# Altium footprint library Modules.PcbLib: 14 footprints (part 1 of 6)
Each footprint in its own frame and in the unit in brackets; x right, y up, seen from the top. Pads: shape width x height; smd on the part's side, far side on the other; paste and mask are expansions set on the pad; w line width, h text height; cw(c..) or ccw(c..) is an arc to the next point about the centre after c.
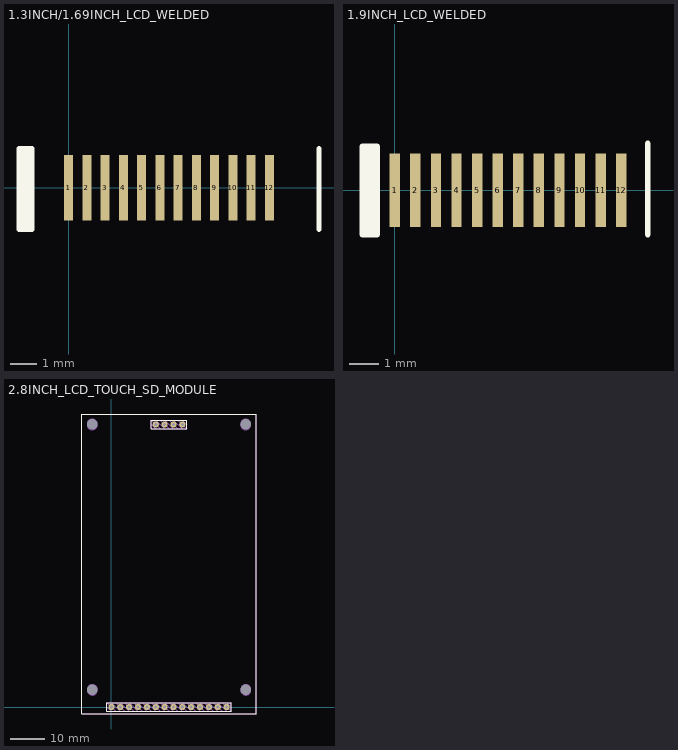
[diagram p0: the footprints below, top view; thin cyan lines are the x and y axes]

## 1.3INCH/1.69INCH_LCD_WELDED [mm]
pads (12):
  rect 0.35x2.5 smd: 1(0,0) 2(0.7,0) 3(1.4,0) 4(2.1,0) 5(2.8,0) 6(3.5,0) 7(4.2,0) 8(4.9,0) 9(5.6,0) 10(6.3,0) 11(7,0) 12(7.7,0)
Top Overlay:
  rectangle: -1.9,-1.6 -1.4,1.5
  lines w0.2: 9.6,-1.6 9.6,1.5 ; -1.9,-1.6 -1.4,-1.6 -1.4,1.5 -1.9,1.5 -1.9,-1.6

## 1.9INCH_LCD_WELDED [mm]
pads (12):
  rect 0.35x2.5 smd: 1(0,0) 2(0.7,0) 3(1.4,0) 4(2.1,0) 5(2.8,0) 6(3.5,0) 7(4.2,0) 8(4.9,0) 9(5.6,0) 10(6.3,0) 11(7,0) 12(7.7,0)
Top Overlay:
  rectangle: -1.1,-1.5 -0.6,1.5
  lines w0.2: 8.6,-1.5 8.6,1.6 ; -1.1,-1.5 -1.1,1.5 -0.6,1.5 -0.6,-1.5 -1.1,-1.5

## 2.8INCH_LCD_TOUCH_SD_MODULE [mm]
pads (22):
  round 1.8 hole 0.9: 1(33.02,0) 2(30.48,0) 3(27.94,0) 4(25.4,0) 5(22.86,0) 6(20.32,0) 7(17.78,0) 8(15.24,0) 9(12.7,0) 10(10.16,0) 11(7.62,0) 12(5.08,0) 13(2.54,0) 14(0,0) 15(20.33,81) 16(17.79,81) 17(15.25,81) 18(12.71,81)
  round 0 hole 3 unplated mask+0.102: ""(-5.49,4.92) ""(-5.49,81) ""(38.51,4.92) ""(38.51,81)
Top Overlay:
  lines w0.2: -8.49,-2 -8.49,84 41.51,84 41.51,-2 -8.49,-2 ; -1.27,-1.27 -1.27,1.27 34.29,1.27 34.29,-1.27 -1.27,-1.27 ; 11.44,79.73 11.44,82.27 21.6,82.27 21.6,79.73 11.44,79.73
Top Draw:
  circle w0.25: c-5.5,81 r1.5
  circle w0.25: c38.5,81 r1.5
  circle w0.25: c38.51,4.92 r1.5
  circle w0.25: c-5.49,4.92 r1.5
  lines w0.25: -1.27,0 0,-1.27 ; 0,1.27 2.54,-1.27 ; 1.27,-1.27 -1.27,1.27 ; 1.27,1.27 3.81,-1.27 ; 2.54,1.27 5.08,-1.27 ; 3.81,1.27 6.35,-1.27 ; 5.08,1.27 7.62,-1.27 ; 6.35,1.27 8.89,-1.27 ; 7.62,1.27 10.16,-1.27 ; 8.89,1.27 11.43,-1.27 ; 10.16,1.27 12.7,-1.27 ; 11.43,1.27 13.97,-1.27 ; 11.44,81 12.71,79.73 ; 12.7,1.27 15.24,-1.27 ; 12.71,82.27 15.25,79.73 ; 13.97,1.27 16.51,-1.27 ; 13.98,79.73 11.44,82.27 ; 13.98,82.27 16.52,79.73 ; 15.24,1.27 17.78,-1.27 ; 15.25,82.27 17.79,79.73 ; 16.51,1.27 19.05,-1.27 ; 16.52,82.27 19.06,79.73 ; 17.78,1.27 20.32,-1.27 ; 17.79,82.27 20.33,79.73 ; 19.05,1.27 21.59,-1.27 ; 19.06,82.27 21.6,79.73 ; 20.32,1.27 22.86,-1.27 ; 20.33,82.27 21.6,81 ; 21.59,1.27 24.13,-1.27 ; 22.86,1.27 25.4,-1.27 ; 24.13,1.27 26.67,-1.27 ; 25.4,1.27 27.94,-1.27 ; 26.67,1.27 29.21,-1.27 ; 27.94,1.27 30.48,-1.27 ; 29.21,1.27 31.75,-1.27 ; 30.48,1.27 33.02,-1.27 ; 31.75,1.27 34.29,-1.27 ; 33.02,1.27 34.29,0 ; -1.27,1.27 34.29,1.27 34.29,-1.27 ; -1.27,1.27 -1.27,-1.27 34.29,-1.27 ; 11.44,82.27 21.6,82.27 21.6,79.73 ; 11.44,82.27 11.44,79.73 21.6,79.73 ; -8.49,-2 -8.49,84 41.51,84 41.51,-2 -8.49,-2
3D body: height 7.5, standoff 0, extent 14.717,80.467 14.742,81.534
3D body: height 7, standoff 0, extent 12.177,81.483 13.243,81.533
3D body: height 7, standoff 0, extent 12.177,80.467 13.243,80.517
3D body: height 7, standoff 0, extent 14.716,80.467 14.767,81.533
3D body: height 7.5, standoff 0, extent 13.218,80.467 13.243,81.533
3D body: height 7.5, standoff 0, extent 14.717,80.467 15.783,80.492
3D body: height 8, standoff 0, extent 13.701,79.73 13.98,82.27
3D body: height 7.5, standoff 0, extent 12.177,80.467 12.202,81.534
3D body: height 8, standoff 0, extent 11.44,79.73 13.98,80.01
3D body: height 7.5, standoff 0, extent 12.177,80.467 13.243,80.492
3D body: height 8, standoff 0, extent 11.44,81.991 13.98,82.27
3D body: height 8, standoff 7.5, extent 11.719,79.992 13.751,80.492
3D body: height 7, standoff 0, extent 13.193,80.467 13.243,81.533
3D body "2.8_TFT_LCD.step": height 16.65, standoff 2.24, extent -8.49,-2 41.51,84
3D body: height 1, standoff 0, extent 12.075,80.365 13.345,81.635
3D body: height 8, standoff 7.5, extent 11.702,79.984 12.202,82.016
3D body: height 7, standoff 0, extent 12.176,80.467 12.227,81.533
3D body: height 0, standoff -3, extent 12.583,80.746 12.837,81.254
3D body: height 8, standoff 7.5, extent 13.218,79.984 13.718,82.016
3D body: height 8, standoff 0, extent 11.44,79.73 11.72,82.27
3D body: height 7.5, standoff 0, extent 12.177,81.508 13.244,81.534
3D body: height 1, standoff 0, extent 32.385,-0.635 33.655,0.635
3D body: height 8, standoff 0, extent 13.98,81.991 16.52,82.27
3D body: height 7, standoff 0, extent 32.487,-0.533 33.553,-0.483
3D body: height 7, standoff 0, extent 19.797,80.467 20.863,80.517
3D body: height 8, standoff 0, extent 29.21,-1.27 31.75,-0.99
3D body: height 7, standoff 0, extent 32.487,0.483 33.553,0.533
3D body: height 1, standoff 0, extent 14.615,80.365 15.885,81.635
3D body: height 8, standoff 7.5, extent 33.528,-1.016 34.028,1.016
3D body: height 8, standoff 7.5, extent 30.988,-1.016 31.488,1.016
3D body: height 7.5, standoff 0, extent 27.407,-0.533 27.432,0.534
3D body: height 8, standoff 0, extent 26.67,-1.27 29.21,-0.99
3D body: height 0, standoff -3, extent 27.813,-0.254 28.067,0.254
3D body: height 8, standoff 7.5, extent 14.259,79.992 16.291,80.492
3D body: height 7, standoff 0, extent 24.866,-0.533 24.917,0.533
3D body: height 8, standoff 0, extent 31.75,-1.27 32.03,1.27
3D body: height 7, standoff 0, extent 24.867,-0.533 25.933,-0.483
3D body: height 8, standoff 7.5, extent 20.838,79.984 21.338,82.016
3D body: height 8, standoff 0, extent 18.781,79.73 19.06,82.27
3D body: height 8, standoff 0, extent 16.52,79.73 16.8,82.27
3D body: height 8, standoff 7.5, extent 14.234,81.508 16.266,82.009
3D body: height 8, standoff 0, extent 16.241,79.73 16.52,82.27
3D body: height 7, standoff 0, extent 27.407,-0.533 28.473,-0.483
3D body: height 7, standoff 0, extent 14.717,80.467 15.783,80.517
3D body: height 8, standoff 0, extent 29.21,0.991 31.75,1.27
3D body: height 1, standoff 0, extent 17.155,80.365 18.425,81.635
3D body: height 8, standoff 7.5, extent 15.758,79.984 16.258,82.016
3D body: height 8, standoff 0, extent 21.321,79.73 21.6,82.27
3D body: height 7, standoff 0, extent 33.503,-0.533 33.553,0.533
3D body: height 8, standoff 7.5, extent 26.932,-1.016 27.432,1.016
3D body: height 8, standoff 7.5, extent 16.782,79.984 17.282,82.016
3D body: height 7.5, standoff 0, extent 17.257,80.467 18.323,80.492
3D body: height 7.5, standoff 0, extent 33.528,-0.533 33.553,0.533
3D body: height 8, standoff 7.5, extent 26.949,-1.008 28.981,-0.508
3D body: height 7.5, standoff 0, extent 14.717,81.508 15.784,81.534
3D body: height 8, standoff 0, extent 13.98,79.73 16.52,80.01
3D body: height 8, standoff 7.5, extent 29.489,-1.008 31.521,-0.508
3D body: height 7, standoff 0, extent 17.257,80.467 18.323,80.517
3D body: height 7, standoff 0, extent 15.733,80.467 15.783,81.533
3D body: height 8, standoff 7.5, extent 28.448,-1.016 28.948,1.016
3D body: height 7.5, standoff 0, extent 17.257,80.467 17.282,81.534
3D body: height 7, standoff 0, extent 19.797,81.483 20.863,81.533
3D body: height 7.5, standoff 0, extent 32.487,-0.533 32.512,0.534
3D body: height 8, standoff 0, extent 31.471,-1.27 31.75,1.27
3D body: height 1, standoff 0, extent 19.695,80.365 20.965,81.635
3D body: height 8, standoff 0, extent 19.06,81.991 21.6,82.27
3D body: height 7.5, standoff 0, extent 29.947,-0.533 29.972,0.534
3D body: height 7.5, standoff 0, extent 27.407,0.508 28.474,0.534
3D body: height 8, standoff 7.5, extent 16.799,79.992 18.831,80.492
3D body: height 7, standoff 0, extent 29.947,-0.533 31.013,-0.483
3D body: height 7.5, standoff 0, extent 27.407,-0.533 28.473,-0.508
3D body: height 8, standoff 0, extent 28.931,-1.27 29.21,1.27
3D body: height 7.5, standoff 0, extent 29.947,-0.533 31.013,-0.508
3D body: height 7.5, standoff 0, extent 15.758,80.467 15.783,81.533
3D body: height 7, standoff 0, extent 28.423,-0.533 28.473,0.533
3D body: height 7, standoff 0, extent 25.883,-0.533 25.933,0.533
3D body: height 7, standoff 0, extent 17.256,80.467 17.307,81.533
3D body: height 8, standoff 7.5, extent 16.774,81.508 18.806,82.009
3D body: height 7.5, standoff 0, extent 30.988,-0.533 31.013,0.533
3D body: height 8, standoff 0, extent 24.13,-1.27 26.67,-0.99
3D body: height 0, standoff -3, extent 17.663,80.746 17.917,81.254
3D body: height 8, standoff 7.5, extent 14.242,79.984 14.742,82.016
3D body: height 7.5, standoff 0, extent 29.947,0.508 31.014,0.534
3D body: height 7, standoff 0, extent 32.486,-0.533 32.537,0.533
3D body: height 8, standoff 7.5, extent 19.322,79.984 19.822,82.016
3D body: height 8, standoff 7.5, extent 29.464,0.508 31.496,1.009
3D body: height 1, standoff 0, extent 27.305,-0.635 28.575,0.635
3D body: height 8, standoff 7.5, extent 26.924,0.508 28.956,1.009
3D body: height 8, standoff 0, extent 16.52,79.73 19.06,80.01
3D body: height 8, standoff 0, extent 26.391,-1.27 26.67,1.27
3D body: height 8, standoff 7.5, extent 29.472,-1.016 29.972,1.016
3D body: height 0, standoff -3, extent 15.123,80.746 15.377,81.254
3D body: height 1, standoff 0, extent 29.845,-0.635 31.115,0.635
3D body: height 0, standoff -3, extent 30.353,-0.254 30.607,0.254
3D body: height 8, standoff 0, extent 29.21,-1.27 29.49,1.27
3D body: height 8, standoff 0, extent 16.52,81.991 19.06,82.27
3D body: height 8, standoff 0, extent 13.98,79.73 14.26,82.27
3D body: height 7.5, standoff 0, extent 19.797,80.467 20.863,80.492
3D body: height 7.5, standoff 0, extent 28.448,-0.533 28.473,0.533
3D body: height 7, standoff 0, extent 30.963,-0.533 31.013,0.533
3D body: height 8, standoff 0, extent 34.011,-1.27 34.29,1.27
3D body: height 7, standoff 0, extent 29.947,0.483 31.013,0.533
3D body: height 7, standoff 0, extent 29.946,-0.533 29.997,0.533
3D body: height 8, standoff 7.5, extent 11.694,81.508 13.726,82.009
3D body: height 7.5, standoff 0, extent 24.867,-0.533 24.892,0.534
3D body: height 8, standoff 0, extent 31.75,-1.27 34.29,-0.99
3D body: height 7.5, standoff 0, extent 18.298,80.467 18.323,81.533
3D body: height 7, standoff 0, extent 27.406,-0.533 27.457,0.533
3D body: height 0, standoff -3, extent 32.893,-0.254 33.147,0.254
3D body: height 8, standoff 0, extent 19.06,79.73 19.34,82.27
3D body: height 8, standoff 0, extent 26.67,0.991 29.21,1.27
3D body: height 7, standoff 0, extent 18.273,80.467 18.323,81.533
3D body: height 0, standoff -3, extent 25.273,-0.254 25.527,0.254
3D body: height 8, standoff 0, extent 26.67,-1.27 26.95,1.27
3D body: height 7.5, standoff 0, extent 17.257,81.508 18.324,81.534
3D body: height 7, standoff 0, extent 14.717,81.483 15.783,81.533
3D body: height 8, standoff 7.5, extent 32.004,0.508 34.036,1.009
3D body: height 7.5, standoff 0, extent 32.487,0.508 33.554,0.534
3D body: height 8, standoff 7.5, extent 19.339,79.992 21.371,80.492
3D body: height 8, standoff 0, extent 19.06,79.73 21.6,80.01
3D body: height 8, standoff 7.5, extent 19.314,81.508 21.346,82.009
3D body: height 7.5, standoff 0, extent 24.867,-0.533 25.933,-0.508
3D body: height 8, standoff 7.5, extent 32.012,-1.016 32.512,1.016
3D body: height 7, standoff 0, extent 19.796,80.467 19.847,81.533
3D body: height 8, standoff 7.5, extent 32.029,-1.008 34.061,-0.508
3D body: height 8, standoff 0, extent 24.13,0.991 26.67,1.27
3D body: height 0, standoff -3, extent 20.203,80.746 20.457,81.254
3D body: height 7, standoff 0, extent 17.257,81.483 18.323,81.533
3D body: height 7.5, standoff 0, extent 32.487,-0.533 33.553,-0.508
3D body: height 7, standoff 0, extent 27.407,0.483 28.473,0.533
3D body: height 7.5, standoff 0, extent 20.838,80.467 20.863,81.533
3D body: height 8, standoff 7.5, extent 18.298,79.984 18.798,82.016
3D body: height 7.5, standoff 0, extent 19.797,80.467 19.822,81.534
3D body: height 8, standoff 0, extent 31.75,0.991 34.29,1.27
3D body: height 7.5, standoff 0, extent 19.797,81.508 20.864,81.534
3D body: height 7, standoff 0, extent 20.813,80.467 20.863,81.533
3D body: height 7.5, standoff 0, extent 22.327,-0.533 22.352,0.534
3D body: height 8, standoff 7.5, extent 24.392,-1.016 24.892,1.016
3D body: height 7, standoff 0, extent 4.547,-0.533 5.613,-0.483
3D body: height 7, standoff 0, extent 12.166,-0.533 12.217,0.533
3D body: height 8, standoff 7.5, extent 6.612,-1.016 7.112,1.016
3D body: height 1, standoff 0, extent 17.145,-0.635 18.415,0.635
3D body: height 8, standoff 7.5, extent 1.532,-1.016 2.032,1.016
3D body: height 7, standoff 0, extent 19.786,-0.533 19.837,0.533
3D body: height 7.5, standoff 0, extent -0.533,-0.533 0.533,-0.508
3D body: height 1, standoff 0, extent 12.065,-0.635 13.335,0.635
3D body: height 8, standoff 0, extent -1.27,0.991 1.27,1.27
3D body: height 7.5, standoff 0, extent 17.247,0.508 18.314,0.534
3D body: height 0, standoff -3, extent 7.493,-0.254 7.747,0.254
3D body: height 8, standoff 0, extent 0.991,-1.27 1.27,1.27
3D body: height 0, standoff -3, extent 22.733,-0.254 22.987,0.254
3D body: height 7.5, standoff 0, extent 17.247,-0.533 18.313,-0.508
3D body: height 8, standoff 7.5, extent 9.169,-1.008 11.201,-0.508
3D body: height 7, standoff 0, extent -0.534,-0.533 -0.483,0.533
3D body: height 8, standoff 0, extent 6.35,-1.27 8.89,-0.99
3D body: height 7.5, standoff 0, extent 22.327,-0.533 23.393,-0.508
3D body: height 1, standoff 0, extent 19.685,-0.635 20.955,0.635
3D body: height 7.5, standoff 0, extent 19.787,-0.533 20.853,-0.508
3D body: height 8, standoff 0, extent 16.51,-1.27 19.05,-0.99
3D body: height 8, standoff 0, extent 1.27,0.991 3.81,1.27
3D body: height 8, standoff 0, extent -1.27,-1.27 1.27,-0.99
3D body: height 8, standoff 7.5, extent 19.329,-1.008 21.361,-0.508
3D body: height 7, standoff 0, extent 22.326,-0.533 22.377,0.533
3D body: height 0, standoff -3, extent 4.953,-0.254 5.207,0.254
3D body: height 7.5, standoff 0, extent 12.167,-0.533 12.192,0.534
3D body: height 7, standoff 0, extent 14.706,-0.533 14.757,0.533
3D body: height 8, standoff 0, extent 19.05,-1.27 21.59,-0.99
3D body: height 7, standoff 0, extent 2.007,-0.533 3.073,-0.483
3D body: height 7.5, standoff 0, extent -0.533,0.508 0.534,0.534
3D body: height 7, standoff 0, extent 8.103,-0.533 8.153,0.533
3D body: height 7, standoff 0, extent 2.007,0.483 3.073,0.533
3D body: height 8, standoff 0, extent 21.59,-1.27 21.87,1.27
3D body: height 1, standoff 0, extent 14.605,-0.635 15.875,0.635
3D body: height 1, standoff 0, extent 9.525,-0.635 10.795,0.635
3D body: height 7, standoff 0, extent 9.626,-0.533 9.677,0.533
3D body: height 8, standoff 7.5, extent -0.991,-1.008 1.041,-0.508
3D body: height 8, standoff 0, extent 8.89,-1.27 9.17,1.27
3D body: height 8, standoff 0, extent 8.89,0.991 11.43,1.27
3D body: height 8, standoff 0, extent 13.97,-1.27 16.51,-0.99
3D body: height 8, standoff 0, extent 11.43,0.991 13.97,1.27
3D body: height 8, standoff 7.5, extent 13.208,-1.016 13.708,1.016
3D body: height 8, standoff 7.5, extent 4.072,-1.016 4.572,1.016
3D body: height 7.5, standoff 0, extent 4.547,0.508 5.614,0.534
3D body: height 8, standoff 7.5, extent -1.016,0.508 1.016,1.009
3D body: height 0, standoff -3, extent 2.413,-0.254 2.667,0.254
3D body: height 0, standoff -3, extent 12.573,-0.254 12.827,0.254
3D body: height 7, standoff 0, extent 17.246,-0.533 17.297,0.533
3D body: height 8, standoff 7.5, extent 21.869,-1.008 23.901,-0.508
3D body: height 7, standoff 0, extent 22.327,0.483 23.393,0.533
3D body: height 7, standoff 0, extent 17.247,-0.533 18.313,-0.483
3D body: height 8, standoff 7.5, extent 21.844,0.508 23.876,1.009
3D body: height 7, standoff 0, extent 20.803,-0.533 20.853,0.533
3D body: height 8, standoff 7.5, extent 9.144,0.508 11.176,1.009
3D body: height 8, standoff 7.5, extent 24.409,-1.008 26.441,-0.508
3D body: height 8, standoff 0, extent 8.611,-1.27 8.89,1.27
3D body: height 8, standoff 7.5, extent 14.232,-1.016 14.732,1.016
3D body: height 8, standoff 0, extent 19.05,0.991 21.59,1.27
3D body: height 7.5, standoff 0, extent 8.128,-0.533 8.153,0.533
3D body: height 8, standoff 0, extent 6.35,-1.27 6.63,1.27
3D body: height 7.5, standoff 0, extent 12.167,-0.533 13.233,-0.508
3D body: height 7, standoff 0, extent 3.023,-0.533 3.073,0.533
3D body: height 8, standoff 0, extent 16.51,0.991 19.05,1.27
3D body: height 7.5, standoff 0, extent 12.167,0.508 13.234,0.534
3D body: height 7, standoff 0, extent 7.087,0.483 8.153,0.533
3D body: height 8, standoff 0, extent 1.27,-1.27 3.81,-0.99
3D body: height 8, standoff 7.5, extent 14.249,-1.008 16.281,-0.508
3D body: height 7.5, standoff 0, extent 19.787,-0.533 19.812,0.534
3D body: height 8, standoff 7.5, extent -1.008,-1.016 -0.508,1.016
3D body: height 7, standoff 0, extent 10.643,-0.533 10.693,0.533
3D body: height 7, standoff 0, extent 15.723,-0.533 15.773,0.533
3D body: height 7.5, standoff 0, extent 10.668,-0.533 10.693,0.533
3D body: height 8, standoff 7.5, extent 16.789,-1.008 18.821,-0.508
3D body: height 7, standoff 0, extent 24.867,0.483 25.933,0.533
3D body: height 7.5, standoff 0, extent 13.208,-0.533 13.233,0.533
3D body: height 7.5, standoff 0, extent 25.908,-0.533 25.933,0.533
3D body: height 7.5, standoff 0, extent 3.048,-0.533 3.073,0.533
3D body: height 7.5, standoff 0, extent 9.627,0.508 10.694,0.534
3D body: height 7, standoff 0, extent 12.167,-0.533 13.233,-0.483
3D body: height 8, standoff 0, extent 1.27,-1.27 1.55,1.27
3D body: height 8, standoff 0, extent 6.071,-1.27 6.35,1.27
3D body: height 8, standoff 7.5, extent 11.692,-1.016 12.192,1.016
3D body: height 8, standoff 7.5, extent 10.668,-1.016 11.168,1.016
3D body: height 7, standoff 0, extent 12.167,0.483 13.233,0.533
3D body: height 7, standoff 0, extent 13.183,-0.533 13.233,0.533
3D body: height 7, standoff 0, extent 5.563,-0.533 5.613,0.533
3D body: height 7, standoff 0, extent 4.547,0.483 5.613,0.533
3D body: height 1, standoff 0, extent 4.445,-0.635 5.715,0.635
3D body: height 7, standoff 0, extent -0.533,-0.533 0.533,-0.483
3D body: height 7, standoff 0, extent 7.086,-0.533 7.137,0.533
3D body: height 7.5, standoff 0, extent -0.533,-0.533 -0.508,0.534
3D body: height 7.5, standoff 0, extent 17.247,-0.533 17.272,0.534
3D body: height 8, standoff 7.5, extent 6.604,0.508 8.636,1.009
3D body: height 8, standoff 7.5, extent 16.764,0.508 18.796,1.009
3D body: height 1, standoff 0, extent 22.225,-0.635 23.495,0.635
3D body: height 8, standoff 0, extent 21.311,-1.27 21.59,1.27
3D body: height 7, standoff 0, extent 22.327,-0.533 23.393,-0.483
3D body: height 1, standoff 0, extent 6.985,-0.635 8.255,0.635
3D body: height 8, standoff 7.5, extent 11.684,0.508 13.716,1.009
3D body: height 7, standoff 0, extent 19.787,0.483 20.853,0.533
3D body: height 7.5, standoff 0, extent 7.087,-0.533 7.112,0.534
3D body: height 8, standoff 7.5, extent 24.384,0.508 26.416,1.009
3D body: height 0, standoff -3, extent 15.113,-0.254 15.367,0.254
3D body: height 8, standoff 0, extent 16.231,-1.27 16.51,1.27
3D body: height 7.5, standoff 0, extent 14.707,-0.533 14.732,0.534
3D body: height 8, standoff 0, extent 13.691,-1.27 13.97,1.27
3D body: height 8, standoff 0, extent 3.531,-1.27 3.81,1.27
3D body: height 8, standoff 7.5, extent 14.224,0.508 16.256,1.009
3D body: height 1, standoff 0, extent -0.635,-0.635 0.635,0.635
3D body: height 8, standoff 7.5, extent 3.048,-1.016 3.548,1.016
3D body: height 8, standoff 7.5, extent 5.588,-1.016 6.088,1.016
3D body: height 0, standoff -3, extent 20.193,-0.254 20.447,0.254
3D body: height 7, standoff 0, extent 18.263,-0.533 18.313,0.533
3D body: height 7, standoff 0, extent 0.483,-0.533 0.533,0.533
3D body: height 0, standoff -3, extent 17.653,-0.254 17.907,0.254
3D body: height 7, standoff 0, extent 9.627,0.483 10.693,0.533
3D body: height 7.5, standoff 0, extent 24.867,0.508 25.934,0.534
3D body: height 8, standoff 7.5, extent 1.549,-1.008 3.581,-0.508
3D body: height 8, standoff 7.5, extent 8.128,-1.016 8.628,1.016
3D body: height 7.5, standoff 0, extent 14.707,-0.533 15.773,-0.508
3D body: height 8, standoff 7.5, extent 23.368,-1.016 23.868,1.016
3D body: height 8, standoff 0, extent 3.81,0.991 6.35,1.27
3D body: height 1, standoff 0, extent 24.765,-0.635 26.035,0.635
3D body: height 7, standoff 0, extent 9.627,-0.533 10.693,-0.483
3D body: height 7.5, standoff 0, extent 23.368,-0.533 23.393,0.533
3D body: height 8, standoff 7.5, extent 19.304,0.508 21.336,1.009
3D body: height 7.5, standoff 0, extent 18.288,-0.533 18.313,0.533
3D body: height 8, standoff 7.5, extent 25.908,-1.016 26.408,1.016
3D body: height 7.5, standoff 0, extent 7.087,0.508 8.154,0.534
3D body: height 8, standoff 0, extent 3.81,-1.27 4.09,1.27
3D body: height 8, standoff 0, extent 21.59,0.991 24.13,1.27
3D body: height 7.5, standoff 0, extent 2.007,-0.533 2.032,0.534
3D body: height 8, standoff 0, extent 3.81,-1.27 6.35,-0.99
3D body: height 7.5, standoff 0, extent 9.627,-0.533 9.652,0.534
3D body: height 8, standoff 7.5, extent 21.852,-1.016 22.352,1.016
3D body: height 7.5, standoff 0, extent 0.508,-0.533 0.533,0.533
3D body: height 1, standoff 0, extent 1.905,-0.635 3.175,0.635
3D body: height 8, standoff 0, extent 18.771,-1.27 19.05,1.27
3D body: height 7.5, standoff 0, extent 15.748,-0.533 15.773,0.533
3D body: height 0, standoff -3, extent 10.033,-0.254 10.287,0.254
3D body: height 8, standoff 0, extent 24.13,-1.27 24.41,1.27
3D body: height 8, standoff 7.5, extent 19.312,-1.016 19.812,1.016
3D body: height 8, standoff 0, extent 11.43,-1.27 11.71,1.27
3D body: height 7.5, standoff 0, extent 4.547,-0.533 5.613,-0.508
3D body: height 7.5, standoff 0, extent 5.588,-0.533 5.613,0.533
3D body: height 7.5, standoff 0, extent 2.007,0.508 3.074,0.534
3D body: height 7.5, standoff 0, extent 14.707,0.508 15.774,0.534
3D body: height 8, standoff 0, extent 19.05,-1.27 19.33,1.27
3D body: height 7.5, standoff 0, extent 22.327,0.508 23.394,0.534
3D body: height 8, standoff 7.5, extent 16.772,-1.016 17.272,1.016
3D body: height 7, standoff 0, extent 17.247,0.483 18.313,0.533
3D body: height 7, standoff 0, extent 4.546,-0.533 4.597,0.533
3D body: height 8, standoff 7.5, extent 18.288,-1.016 18.788,1.016
3D body: height 7, standoff 0, extent 23.343,-0.533 23.393,0.533
3D body: height 8, standoff 7.5, extent 4.064,0.508 6.096,1.009
3D body: height 7, standoff 0, extent 14.707,-0.533 15.773,-0.483
3D body: height 0, standoff -3, extent -0.127,-0.254 0.127,0.254
3D body: height 8, standoff 0, extent 11.43,-1.27 13.97,-0.99
3D body: height 7, standoff 0, extent 7.087,-0.533 8.153,-0.483
3D body: height 8, standoff 7.5, extent 4.089,-1.008 6.121,-0.508
3D body: height 8, standoff 7.5, extent 11.709,-1.008 13.741,-0.508
3D body: height 8, standoff 0, extent 13.97,-1.27 14.25,1.27
3D body: height 8, standoff 0, extent 16.51,-1.27 16.79,1.27
3D body: height 8, standoff 0, extent 23.851,-1.27 24.13,1.27
3D body: height 7, standoff 0, extent -0.533,0.483 0.533,0.533
3D body: height 8, standoff 7.5, extent 9.152,-1.016 9.652,1.016
3D body: height 8, standoff 0, extent -1.27,-1.27 -0.99,1.27
3D body: height 8, standoff 0, extent 8.89,-1.27 11.43,-0.99
3D body: height 8, standoff 0, extent 21.59,-1.27 24.13,-0.99
3D body: height 7, standoff 0, extent 14.707,0.483 15.773,0.533
3D body: height 7.5, standoff 0, extent 9.627,-0.533 10.693,-0.508
3D body: height 8, standoff 7.5, extent 6.629,-1.008 8.661,-0.508
3D body: height 8, standoff 0, extent 13.97,0.991 16.51,1.27
3D body: height 8, standoff 7.5, extent 0.508,-1.016 1.008,1.016
3D body: height 8, standoff 0, extent 6.35,0.991 8.89,1.27
3D body: height 7.5, standoff 0, extent 7.087,-0.533 8.153,-0.508
3D body: height 8, standoff 7.5, extent 1.524,0.508 3.556,1.009
3D body: height 8, standoff 7.5, extent 20.828,-1.016 21.328,1.016
3D body: height 7.5, standoff 0, extent 4.547,-0.533 4.572,0.534
3D body: height 7, standoff 0, extent 2.006,-0.533 2.057,0.533
3D body: height 7.5, standoff 0, extent 2.007,-0.533 3.073,-0.508
3D body: height 7, standoff 0, extent 19.787,-0.533 20.853,-0.483
3D body: height 8, standoff 7.5, extent 15.748,-1.016 16.248,1.016
3D body: height 8, standoff 0, extent 11.151,-1.27 11.43,1.27
3D body: height 7.5, standoff 0, extent 20.828,-0.533 20.853,0.533
3D body: height 7.5, standoff 0, extent 19.787,0.508 20.854,0.534